# EAGLE library part ANT-433-SP (library SWP)
Link Technologies SP Series Splatch Antenna The Link Technologies SP Series Splatch antenna is a low-cost, embeddable planar antenna that helps designers of compact wireless products whose antenna options are normally limited by size, cost, and cosmetic considerations. The Link Technologies SP Series Splatch antenna stands out from other compact antennas with its resistance to proximity effects that makes it ideally suited for a variety of applications from medical to remote control. The Link Technologies SP Series Splatch is available in standard or custom frequencies within the 300 MHz to 1 GHz range. The antenna is RoHS compliant and its SMD form factor is equally appropriate for reflow or hand attachment.
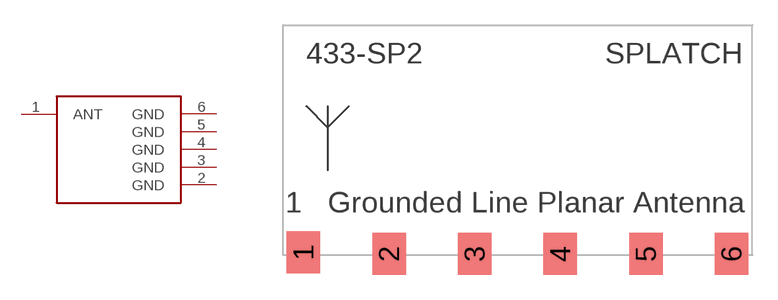
[diagram p1: symbol with the pads of ANT433; footprint ANT433]

Designator prefix -

## ANT-433-SP  [ANT433]
1  ANT
2  GND
3  GND
4  GND
5  GND
6  GND

## Footprint ANT433 (pad centres in mm)
Rainsun AN1603-433 at 433MHz is a multi-layer chip antenna designed for wireless applications. Dimensions: 16.0 x 3.0 mm Bandwidth: 8MHz Center Frequency: 433MHz Gain: 0.5dBi Impedence: 50 Ohms Polarity: Linear VSWR: 2.0 (max.) Pack Pin Count: 2 solder pads Reel Size: 3000 pcs Lead Free Status: RoHS Compliant Surface Mount: YES Antenna Type: LTCC Chip Antenna
smd 2 x 2.5: 1 -12.87,-6.16; 2 -7.77,-6.26; 3 -2.67,-6.26; 4 2.43,-6.26; 5 7.53,-6.26; 6 12.63,-6.26